# EAGLE library part ZSFM201-1 (library GW-devices)
The CEL MC13224V
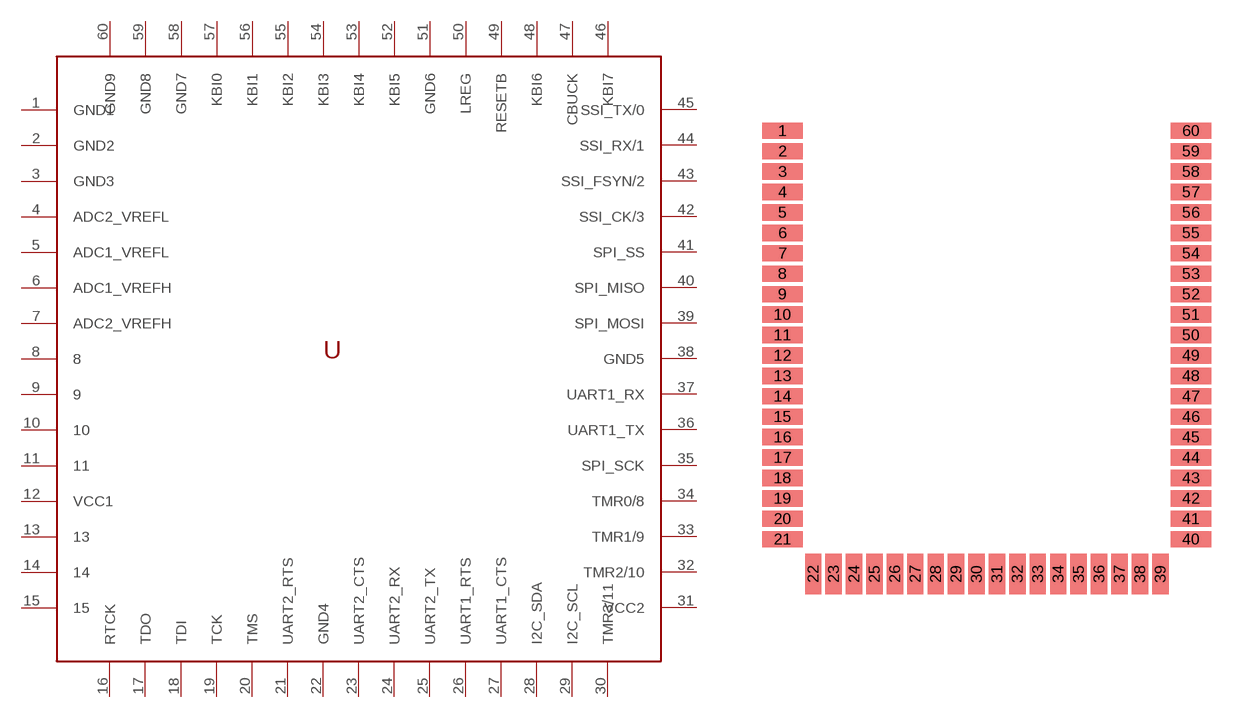
[diagram p20: symbol with the pads of ZSFM201-1; footprint ZSFM201-1]

Designator prefix -

## ZSFM201-1A  [ZSFM201-1]
1  GND1  pwr
2  GND2  pwr
3  GND3  pwr
4  ADC2_VREFL
5  ADC1_VREFL
6  ADC1_VREFH
7  ADC2_VREFH
8  8
9  9
10  10
11  11
12  VCC1  pwr
13  13
14  14
15  15
16  RTCK
17  TDO
18  TDI
19  TCK
20  TMS
21  UART2_RTS
22  GND4  pwr
23  UART2_CTS
24  UART2_RX
25  UART2_TX
26  UART1_RTS
27  UART1_CTS
28  I2C_SDA
29  I2C_SCL
30  TMR3/11
31  VCC2  pwr
32  TMR2/10
33  TMR1/9
34  TMR0/8
35  SPI_SCK
36  UART1_TX
37  UART1_RX
38  GND5  pwr
39  SPI_MOSI
40  SPI_MISO
41  SPI_SS
42  SSI_CK/3
43  SSI_FSYN/2
44  SSI_RX/1
45  SSI_TX/0
46  KBI7
47  CBUCK
48  KBI6
49  RESETB
50  LREG
51  GND6  pwr
52  KBI5
53  KBI4
54  KBI3
55  KBI2
56  KBI1
57  KBI0
58  GND7  pwr
59  GND8  pwr
60  GND9  pwr

## Footprint ZSFM201-1 (pad centres in mm)
smd 2.54 x 1.016: 1 -12.7,28.829; 2 -12.7,27.559; 3 -12.7,26.289; 4 -12.7,25.019; 5 -12.7,23.749; 6 -12.7,22.479; 7 -12.7,21.209; 8 -12.7,19.939; 9 -12.7,18.669; 10 -12.7,17.399; 11 -12.7,16.129; 12 -12.7,14.859; 13 -12.7,13.589; 14 -12.7,12.319; 15 -12.7,11.049; 16 -12.7,9.779; 17 -12.7,8.509; 18 -12.7,7.239; 19 -12.7,5.969; 20 -12.7,4.699; 21 -12.7,3.429; 40 12.7,3.429; 41 12.7,4.699; 42 12.7,5.969; 43 12.7,7.239; 44 12.7,8.509; 45 12.7,9.779; 46 12.7,11.049; 47 12.7,12.319; 48 12.7,13.589; 49 12.7,14.859; 50 12.7,16.129; 51 12.7,17.399; 52 12.7,18.669; 53 12.7,19.939; 54 12.7,21.209; 55 12.7,22.479; 56 12.7,23.749; 57 12.7,25.019; 58 12.7,26.289; 59 12.7,27.559; 60 12.7,28.829
smd 1.016 x 2.54: 22 -10.795,1.27; 23 -9.525,1.27; 24 -8.255,1.27; 25 -6.985,1.27; 26 -5.715,1.27; 27 -4.445,1.27; 28 -3.175,1.27; 29 -1.905,1.27; 30 -0.635,1.27; 31 0.635,1.27; 32 1.905,1.27; 33 3.175,1.27; 34 4.445,1.27; 35 5.715,1.27; 36 6.985,1.27; 37 8.255,1.27; 38 9.525,1.27; 39 10.795,1.27